# Altium footprint library hsbest3.PcbLib: 363 footprints (part 14 of 23)
Each footprint in its own frame and in the unit in brackets; x right, y up, seen from the top. Pads: shape width x height; smd on the part's side, far side on the other; paste and mask are expansions set on the pad; w line width, h text height; cw(c..) or ccw(c..) is an arc to the next point about the centre after c.
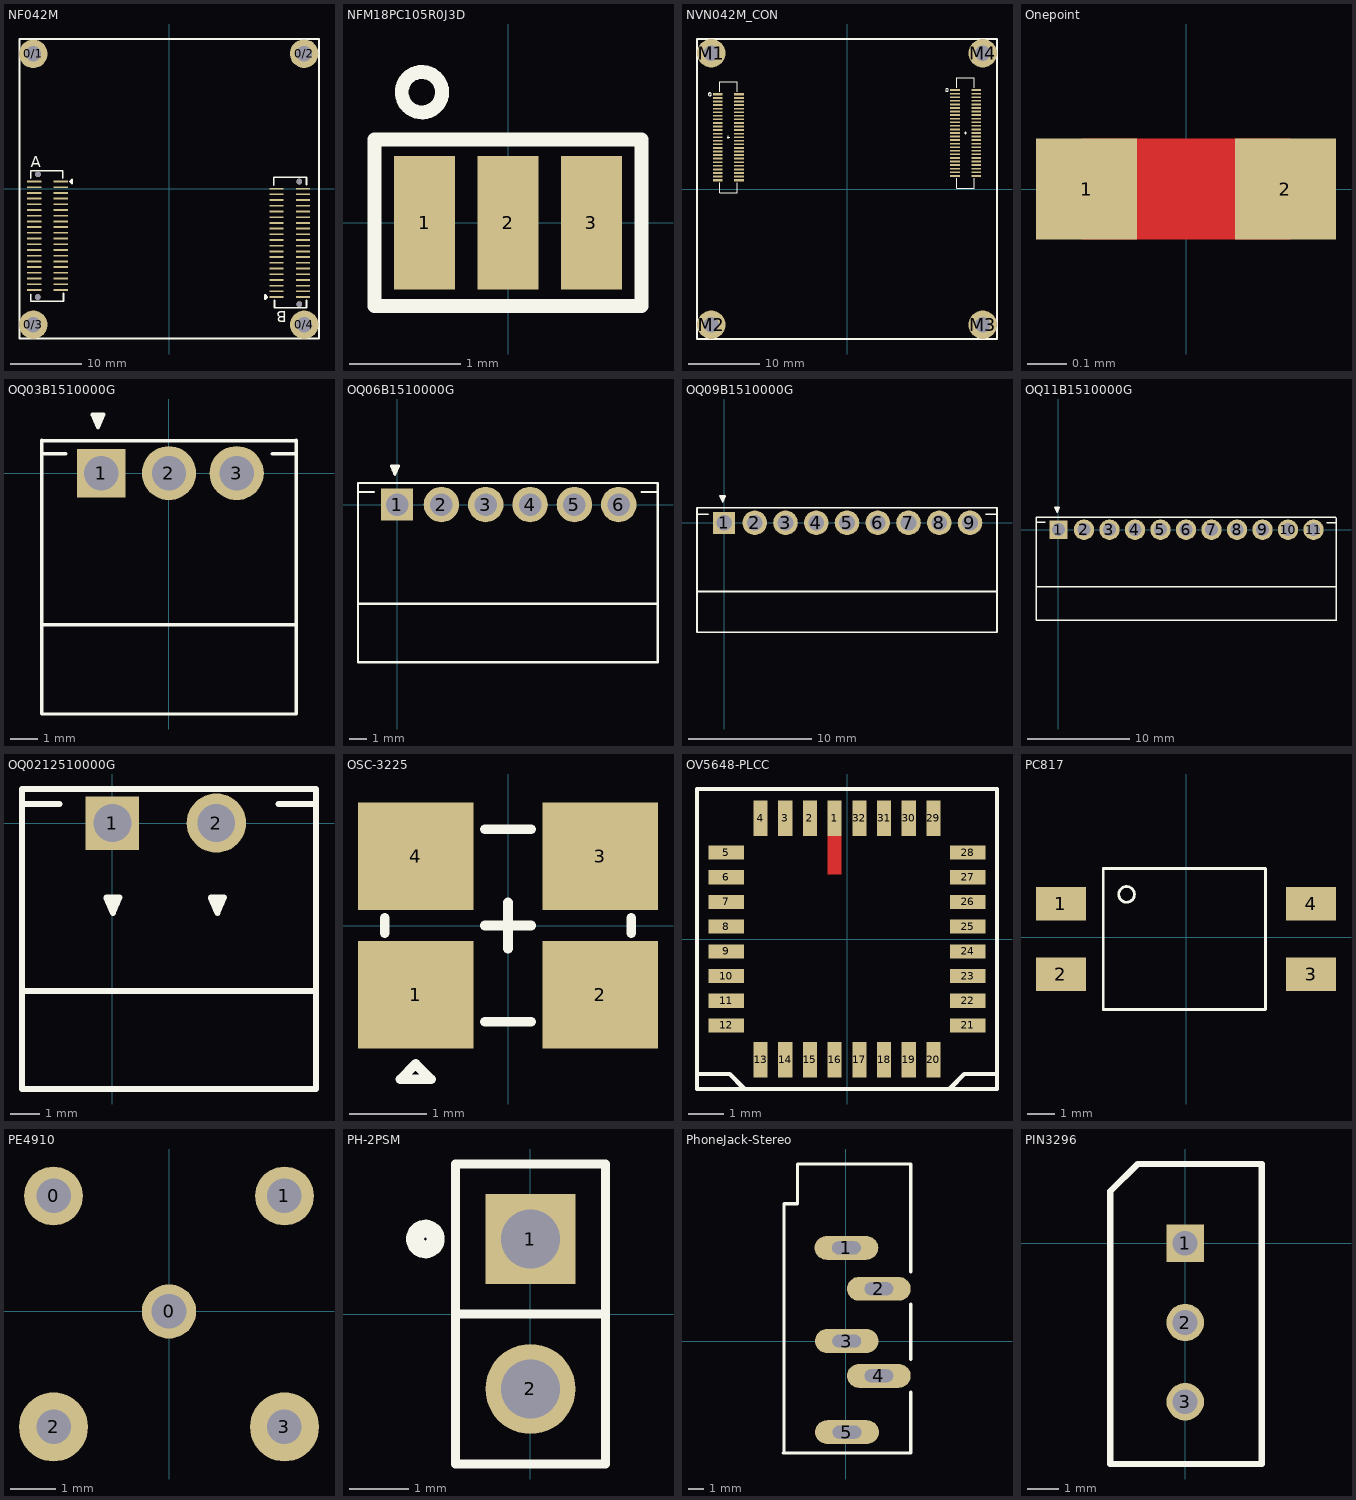
[diagram p13: the footprints below, top view; thin cyan lines are the x and y axes]

## NF042M [mm]
pads (88):
  rrect100% 4x4 hole 2.2: 0/1(-19.059,18.911) 0/2(18.905,18.951) 0/3(-19.05,-19.05) 0/4(18.918,-19.062)
  round 0.8 hole 0.8: 0/5(-18.408,2.022) 0/6(-18.416,-15.178) 0/7(18.247,1.018) 0/8(18.239,-16.182)
  rect 2x0.25 smd: 1(-15.216,1.022) 2(-18.916,1.022) 3(-15.216,0.222) 4(-18.916,0.222) 5(-15.216,-0.578) 6(-18.916,-0.578) 7(-15.216,-1.378) 8(-18.916,-1.378) 9(-15.216,-2.178) 10(-18.916,-2.178) 11(-15.216,-2.978) 12(-18.916,-2.978) 13(-15.216,-3.778) 14(-18.916,-3.778) 15(-15.216,-4.578) 16(-18.916,-4.578) 17(-15.216,-5.378) 18(-18.916,-5.378) 19(-15.216,-6.178) 20(-18.916,-6.178) 21(-15.216,-6.978) 22(-18.916,-6.978) 23(-15.216,-7.778) 24(-18.916,-7.778) 25(-15.216,-8.578) 26(-18.916,-8.578) 27(-15.216,-9.378) 28(-18.916,-9.378) 29(-15.216,-10.178) 30(-18.916,-10.178) 31(-15.216,-10.978) 32(-18.916,-10.978) 33(-15.216,-11.778) 34(-18.916,-11.778) 35(-15.216,-12.578) 36(-18.916,-12.578) 37(-15.216,-13.378) 38(-18.916,-13.378) 39(-15.216,-14.178) 40(-18.916,-14.178) 41(15.047,-15.182) 42(18.747,-15.182) 43(15.047,-14.382) 44(18.747,-14.382) 45(15.047,-13.582) 46(18.747,-13.582) 47(15.047,-12.782) 48(18.747,-12.782) 49(15.047,-11.982) 50(18.747,-11.982) 51(15.047,-11.182) 52(18.747,-11.182) 53(15.047,-10.382) 54(18.747,-10.382) 55(15.047,-9.582) 56(18.747,-9.582) 57(15.047,-8.782) 58(18.747,-8.782) 59(15.047,-7.982) 60(18.747,-7.982) 61(15.047,-7.182) 62(18.747,-7.182) 63(15.047,-6.382) 64(18.747,-6.382) 65(15.047,-5.582) 66(18.747,-5.582) 67(15.047,-4.782) 68(18.747,-4.782) 69(15.047,-3.982) 70(18.747,-3.982) 71(15.047,-3.182) 72(18.747,-3.182) 73(15.047,-2.382) 74(18.747,-2.382) 75(15.047,-1.582) 76(18.747,-1.582) 77(15.047,-0.782) 78(18.747,-0.782) 79(15.047,0.018) 80(18.747,0.018)
Top Overlay:
  lines w0.254: -19.416,-14.778 -19.416,-15.278 -19.416,-15.778 -14.816,-15.778 -14.816,-15.278 -14.816,-14.678 ; -19.416,1.522 -19.416,2.022 -19.416,2.522 -14.916,2.522 -14.916,2.022 -14.916,1.522 ; 14.647,0.518 14.647,1.118 14.647,1.618 19.247,1.618 19.247,1.118 19.247,0.618 ; 14.747,-15.682 14.747,-16.182 14.747,-16.682 19.247,-16.682 19.247,-16.182 19.247,-15.682 ; -21,-21 -21,21 21,21 21,-21 -21,-21 ; -13.916,1.022 -13.616,0.722 -13.616,1.322 -13.916,1.022 ; 13.447,-15.482 13.447,-14.882 13.747,-15.182 13.447,-15.482
  text "B" at 16.51,-17.145 h1.52
  text "A" at -19.431,3.048 h1.52

## NFM18PC105R0J3D [mm]
pads (3):
  rect 0.55x1.2 smd: 1(-0.75,0) 2(0,0) 3(0.75,0)
Top Overlay:
  circle w0.125: c-0.775,1.175 r0.182
  lines w0.125: -1.2,-0.75 -1.2,0.75 1.2,0.75 1.2,-0.75 -1.2,-0.75

## NVN042M_CON [mm]
pads (104):
  rect 1.35x0.3 smd: A1(-18.075,13.275) A2(-15.125,13.275) A49(-18.075,1.225) A50(-15.125,1.225) B1(15.125,13.875) B2(18.075,13.875) B49(15.125,1.825) B50(18.075,1.825)
  rect 1.35x0.25 smd: A3(-18.075,12.75) A4(-15.125,12.75) A5(-18.075,12.25) A6(-15.125,12.25) A7(-18.075,11.75) A8(-15.125,11.75) A9(-18.075,11.25) A10(-15.125,11.25) A11(-18.075,10.75) A12(-15.125,10.75) A13(-18.075,10.25) A14(-15.125,10.25) A15(-18.075,9.75) A16(-15.125,9.75) A17(-18.075,9.25) A18(-15.125,9.25) A19(-18.075,8.75) A20(-15.125,8.75) A21(-18.075,8.25) A22(-15.125,8.25) A23(-18.075,7.75) A24(-15.125,7.75) A25(-18.075,7.25) A26(-15.125,7.25) A27(-18.075,6.75) A28(-15.125,6.75) A29(-18.075,6.25) A30(-15.125,6.25) A31(-18.075,5.75) A32(-15.125,5.75) A33(-18.075,5.25) A34(-15.125,5.25) A35(-18.075,4.75) A36(-15.125,4.75) A37(-18.075,4.25) A38(-15.125,4.25) A39(-18.075,3.75) A40(-15.125,3.75) A41(-18.075,3.25) A42(-15.125,3.25) A43(-18.075,2.75) A44(-15.125,2.75) A45(-18.075,2.25) A46(-15.125,2.25) A47(-18.075,1.75) A48(-15.125,1.75) B3(15.125,13.35) B4(18.075,13.35) B5(15.125,12.85) B6(18.075,12.85) B7(15.125,12.35) B8(18.075,12.35) B9(15.125,11.85) B10(18.075,11.85) B11(15.125,11.35) B12(18.075,11.35) B13(15.125,10.85) B14(18.075,10.85) B15(15.125,10.35) B16(18.075,10.35) B17(15.125,9.85) B18(18.075,9.85) B19(15.125,9.35) B20(18.075,9.35) B21(15.125,8.85) B22(18.075,8.85) B23(15.125,8.35) B24(18.075,8.35) B25(15.125,7.85) B26(18.075,7.85) B27(15.125,7.35) B28(18.075,7.35) B29(15.125,6.85) B30(18.075,6.85) B31(15.125,6.35) B32(18.075,6.35) B33(15.125,5.85) B34(18.075,5.85) B35(15.125,5.35) B36(18.075,5.35) B37(15.125,4.85) B38(18.075,4.85) B39(15.125,4.35) B40(18.075,4.35) B41(15.125,3.85) B42(18.075,3.85) B43(15.125,3.35) B44(18.075,3.35) B45(15.125,2.85) B46(18.075,2.85) B47(15.125,2.35) B48(18.075,2.35)
  rrect100% 4x4 hole 2.2: M1(-19,19) M2(-19,-19) M3(19,-19) M4(19,19)
Top Overlay:
  circle w0.12: c-19.2,13.25 r0.2
  circle w0.12: c14,13.85 r0.2
  lines w0.12: -17.85,0.9 -17.85,-0.5 -15.35,-0.5 -15.35,0.9 ; -17.85,13.6 -17.85,15 -15.35,15 -15.35,13.6 ; -16.8,7.25 -16.4,7.25 ; -16.6,7.05 -16.6,7.45 ; 15.35,1.5 15.35,0.1 17.85,0.1 17.85,1.5 ; 15.35,14.2 15.35,15.6 17.85,15.6 17.85,14.2 ; 16.4,7.85 16.8,7.85 ; 16.6,7.65 16.6,8.05
  lines w0.254: -21,-21 -21,21 21,21 21,-21 -21,-21

## Onepoint [mil]
pads (2):
  rect 10x10 smd: 1(-9.84,0) 2(9.84,0)
Top Layer:
  lines w10: -9.84,0 9.84,0

## OQ03B1510000G [mm]
pads (3):
  rect 1.8x1.8 hole 1.27: 1(-2.5,0)
  round 2 hole 1.27: 2(0,0) 3(2.5,0)
Top Overlay:
  lines w0.127: -4.702,-5.6 4.7,-5.6 ; -4.702,0.709 -3.802,0.709 ; -4.702,1.2 4.7,1.2 ; -4.702,1.209 -4.702,-8.891 4.675,-8.891 ; -2.825,2.145 -2.825,2.184 ; -2.819,2.131 -2.819,2.184 ; -2.735,1.935 -2.735,2.184 ; -2.652,1.739 -2.652,2.184 ; -2.568,1.793 -2.568,2.184 ; -2.484,1.988 -2.484,2.184 ; 3.803,0.713 4.703,0.713 ; 4.703,-8.891 4.703,1.213 ; -2.842,2.184 -2.621,1.668 -2.4,2.184 -2.842,2.184

## OQ06B1510000G [mm]
pads (6):
  rect 1.8x1.8 hole 1.27: 1(0,0)
  round 2 hole 1.27: 2(2.5,0) 3(5,0) 4(7.5,0) 5(10,0) 6(12.5,0)
Top Overlay:
  lines w0.127: -2.202,-5.591 14.691,-5.591 ; -2.202,0.709 -1.302,0.709 ; -0.325,2.145 -0.325,2.184 ; -0.319,2.131 -0.319,2.184 ; -0.235,1.935 -0.235,2.184 ; -0.152,1.739 -0.152,2.184 ; -0.068,1.793 -0.068,2.184 ; 0.016,1.988 0.016,2.184 ; 13.803,0.713 14.703,0.713 ; 14.691,1.209 -2.202,1.209 -2.202,-8.891 14.716,-8.891 ; 14.703,-8.887 14.703,1.213 ; -0.342,2.184 0.1,2.184 -0.121,1.668 -0.342,2.184

## OQ09B1510000G [mm]
pads (9):
  rect 1.8x1.8 hole 1.27: 1(0,0)
  round 2 hole 1.27: 2(2.5,0) 3(5,0) 4(7.5,0) 5(10,0) 6(12.5,0) 7(15,0) 8(17.5,0) 9(20,0)
Top Overlay:
  lines w0.127: -2.202,-5.583 22.198,-5.583 ; -2.202,0.717 -1.302,0.717 ; -0.325,2.153 -0.325,2.192 ; -0.319,2.139 -0.319,2.192 ; -0.235,1.943 -0.235,2.192 ; -0.152,1.747 -0.152,2.192 ; -0.068,1.801 -0.068,2.192 ; 0.016,1.996 0.016,2.192 ; 21.298,0.717 22.198,0.717 ; -2.202,-8.883 -2.202,1.217 22.198,1.217 22.198,-8.883 -2.202,-8.883 ; -0.342,2.192 0.1,2.192 -0.121,1.676 -0.342,2.192

## OQ11B1510000G [mm]
pads (11):
  rect 1.8x1.8 hole 1.27: 1(0,0)
  round 2 hole 1.27: 2(2.5,0) 3(5,0) 4(7.5,0) 5(10,0) 6(12.5,0) 7(15,0) 8(17.5,0) 9(20,0) 10(22.5,0) 11(25,0)
Top Overlay:
  lines w0.127: -2.202,-5.591 27.116,-5.591 ; -2.202,0.709 -1.302,0.709 ; -0.325,2.145 -0.325,2.184 ; -0.319,2.131 -0.319,2.184 ; -0.235,1.935 -0.235,2.184 ; -0.152,1.739 -0.152,2.184 ; -0.068,1.793 -0.068,2.184 ; 0.016,1.988 0.016,2.184 ; 26.301,0.688 27.201,0.688 ; 27.166,-8.891 -2.202,-8.891 -2.202,1.209 27.166,1.209 ; 27.201,-8.912 27.201,1.188 ; -0.342,2.184 0.1,2.184 -0.121,1.668 -0.342,2.184

## OQ0212510000G [mm]
pads (2):
  rect 1.8x1.8 hole 1.27: 1(0,0)
  round 2 hole 1.27: 2(3.5,0)
Top Overlay:
  lines w0.2: -3.048,-5.654 6.858,-5.654 ; -3.048,0.646 -1.778,0.646 ; -0.187,-2.546 -0.187,-2.506 ; -0.181,-2.56 -0.181,-2.506 ; -0.097,-2.755 -0.097,-2.506 ; -0.013,-2.951 -0.013,-2.506 ; 0.07,-2.898 0.07,-2.506 ; 0.154,-2.702 0.154,-2.506 ; 3.329,-2.546 3.329,-2.506 ; 3.335,-2.56 3.335,-2.506 ; 3.419,-2.755 3.419,-2.506 ; 3.502,-2.951 3.502,-2.506 ; 3.586,-2.898 3.586,-2.506 ; 3.67,-2.702 3.67,-2.506 ; 5.588,0.646 6.858,0.646 ; -3.048,-8.954 -3.048,1.146 6.858,1.146 6.858,-8.954 -3.048,-8.954 ; -0.204,-2.506 0.017,-3.022 0.238,-2.506 -0.204,-2.506 ; 3.312,-2.506 3.533,-3.022 3.754,-2.506 3.312,-2.506

## OSC-3225 [mm]
pads (4):
  rect 1.5x1.4 smd: 1(-1.2,-0.9) 2(1.2,-0.9) 3(1.2,0.9) 4(-1.2,0.9)
Top Overlay:
  lines w0.125: -1.6,-0.1 -1.6,0.1 ; -0.3,-1.25 0.3,-1.25 ; -0.3,0 0.3,0 ; -0.3,1.25 0.3,1.25 ; 0,-0.3 0,0.3 ; 1.6,-0.1 1.6,0.1 ; -1.4,-2 -1.2,-1.8 -1,-2 -1.4,-2

## OV5648-PLCC [mm]
pads (32):
  rect 0.4x1 smd: 1(-0.35,3.425) 2(-1.05,3.425) 3(-1.75,3.425) 4(-2.45,3.425) 13(-2.45,-3.425) 14(-1.75,-3.425) 15(-1.05,-3.425) 16(-0.35,-3.425) 17(0.35,-3.425) 18(1.05,-3.425) 19(1.75,-3.425) 20(2.45,-3.425) 29(2.45,3.425) 30(1.75,3.425) 31(1.05,3.425) 32(0.35,3.425)
  rect 1x0.4 smd: 5(-3.425,2.45) 6(-3.425,1.75) 7(-3.425,1.05) 8(-3.425,0.35) 9(-3.425,-0.35) 10(-3.425,-1.05) 11(-3.425,-1.75) 12(-3.425,-2.45) 21(3.425,-2.45) 22(3.425,-1.75) 23(3.425,-1.05) 24(3.425,-0.35) 25(3.425,0.35) 26(3.425,1.05) 27(3.425,1.75) 28(3.425,2.45)
Top Layer:
  rectangle: -0.55,1.825 -0.15,2.925
Top Overlay:
  lines w0.127: -4.25,-3.825 -3.325,-3.825 -2.925,-4.225 ; 2.925,-4.225 3.325,-3.825 4.25,-3.825 ; -4.25,-4.25 -4.25,4.25 4.25,4.25 4.25,-4.25 -4.25,-4.25
Top Solder:
  rectangle: -0.65,1.75 -0.05,2.825

## PC817 [mm]
pads (4):
  rect 1.8x1.2 smd: 1(-4.506,1.208) 2(-4.506,-1.332) 3(4.494,-1.332) 4(4.494,1.208)
Top Overlay:
  circle w0.1: c-2.144,1.545 r0.283
  lines w0.1: -2.982,-2.602 2.86,-2.602 2.86,2.478 -2.982,2.478 -2.982,-2.602

## PE4910 [mm]
pads (5):
  round 1.3 hole 0.762: 0(-2.55,2.55) 1(2.55,2.55)
  round 1.2 hole 0.762: 0(0,0)
  round 1.524 hole 0.762: 2(-2.55,-2.55) 3(2.55,-2.55)

## PH-2PSM [mil]
pads (2):
  rect 60x60 hole 39.37: 1(0,50)
  round 60 hole 39.37: 2(0,-50)
Top Overlay:
  circle w6: c-70,50 r3.94
  circle w6: c-70,50 r9.84
  lines w6: -50,0 50,0 ; -50,-100 -50,100 50,100 50,-100 -50,-100

## PhoneJack-Stereo [mm]
pads (5):
  oval 4x1.5 hole 0.8 slot 1.8 at 0 deg: 1(0.029,5.866) 2(2.064,3.296) 3(0.047,0.013) 4(2.064,-2.169) 5(0.064,-5.704)
Top Overlay:
  lines w0.2: 4.064,-3.2 4.064,-7.019 -3.936,-7.019 -3.886,-6.969 -3.886,8.62 -3.875,8.631 -3.036,8.631 -3.036,11.131 -1.836,11.131 -1.736,11.131 4.064,11.131 4.064,7.731 4.064,7.681 4.064,4.35 ; 4.064,-1.151 4.064,2.325

## PIN3296 [mm]
pads (3):
  rect 1.2x1.2 hole 0.8: 1(0,0)
  round 1.2 hole 0.8: 2(0,-2.54) 3(0,-5.08)
Top Overlay:
  lines w0.2: -2.4,-7.075 2.45,-7.075 2.45,2.54 -1.524,2.54 -2.4,1.664 -2.4,-7.075